# Altium footprint library PogoPinConnPitch2mm3PinSMDHorizontalFemale.PcbLib: 1 footprints
Each footprint in its own frame and in the unit in brackets; x right, y up, seen from the top. Pads: shape width x height; smd on the part's side, far side on the other; paste and mask are expansions set on the pad; w line width, h text height; cw(c..) or ccw(c..) is an arc to the next point about the centre after c.
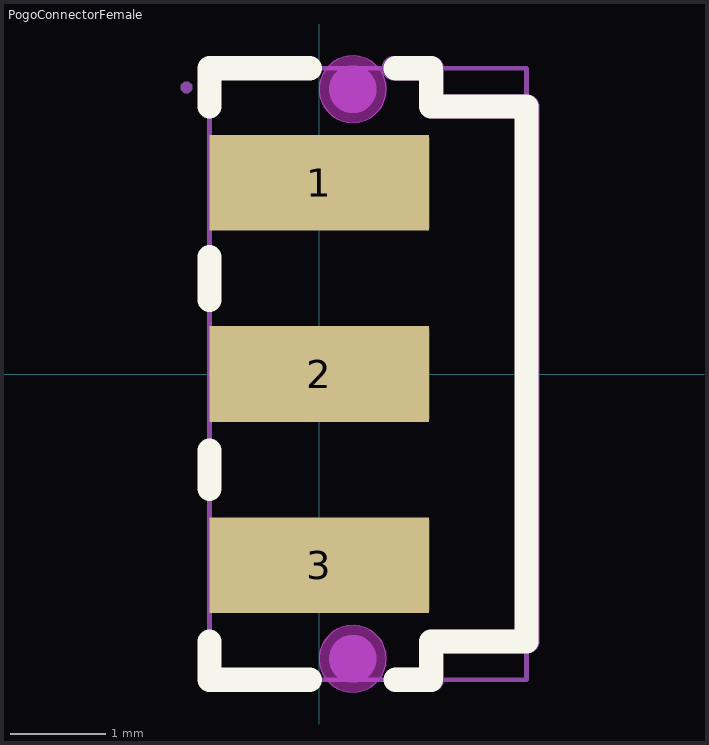
[diagram p0: the footprint, top view; thin cyan lines are the x and y axes]

## PogoConnectorFemale [mm] "Pogo pin connector, Pitch 2mm, SMD, Rectangular Angle, 3 Pins, Female"
pads (3):
  rect 2.3x1 smd: 1(0,2) 2(0,0) 3(0,-2)
Top Overlay:
  lines w0.254: -1.15,-2.8 -1.15,-3.2 -0.1,-3.2 ; -1.15,-1.2 -1.15,-0.8 ; -1.15,0.775 -1.15,1.225 ; -1.15,2.8 -1.15,3.2 -0.1,3.2 ; 0.8,-3.2 1.168,-3.2 ; 0.8,3.2 1.168,3.2 1.168,2.8 2.168,2.8 2.168,-2.8 1.168,-2.8 1.168,-3.2
Keep-Out Layer:
  board cut-out: 0.7,-2.98 0.7,-3.05 0.647,-3.178 0.548,-3.277 0.42,-3.33 0.28,-3.33 0.152,-3.277 0.053,-3.178 0,-3.05 0,-2.98 0,-2.91 0.053,-2.782 0.152,-2.683 0.28,-2.63 0.42,-2.63 0.548,-2.683 0.647,-2.782 0.7,-2.91
  board cut-out: 0.7,2.98 0.7,2.91 0.647,2.782 0.548,2.683 0.42,2.63 0.28,2.63 0.152,2.683 0.053,2.782 0,2.91 0,2.98 0,3.05 0.053,3.178 0.152,3.277 0.28,3.33 0.42,3.33 0.548,3.277 0.647,3.178 0.7,3.05
Keep-Out Layer:
  circle w0.005: c0.35,-2.98 r0.35
  circle w0.005: c0.35,2.98 r0.35
  region: 0.7,-2.98 0.7,-3.05 0.647,-3.178 0.548,-3.277 0.42,-3.33 0.28,-3.33 0.152,-3.277 0.053,-3.178 0,-3.05 0,-2.98 0,-2.91 0.053,-2.782 0.152,-2.683 0.28,-2.63 0.42,-2.63 0.548,-2.683 0.647,-2.782 0.7,-2.91
  region: 0.7,2.98 0.7,2.91 0.647,2.782 0.548,2.683 0.42,2.63 0.28,2.63 0.152,2.683 0.053,2.782 0,2.91 0,2.98 0,3.05 0.053,3.178 0.152,3.277 0.28,3.33 0.42,3.33 0.548,3.277 0.647,3.178 0.7,3.05
Mechanical 1:
  circle w0.005: c0.35,-2.98 r0.35
  circle w0.005: c0.35,2.98 r0.35
Mechanical 6:
  circle w0.25: c0.35,-2.98 r0.125
  circle w0.25: c0.35,2.98 r0.125
  lines w0.254: 0.775,3.2 1.175,3.2 ; 0.8,-3.2 1.175,-3.2 1.175,-2.8 2.175,-2.8 2.175,2.8 1.175,2.8 1.175,3.2 ; 1.175,3.2 1.175,3.2
Mechanical 15:
  region: 1.15,0.475 1.15,-0.475 -1.15,-0.475 -1.15,0.475
  region: -1.33,3 -1.33,2.975 -1.365,2.94 -1.415,2.94 -1.45,2.975 -1.45,3 -1.45,3.025 -1.415,3.06 -1.365,3.06 -1.33,3.025
  region: 1.15,2.475 1.15,1.525 -1.15,1.525 -1.15,2.475
  region: 1.15,-1.525 1.15,-2.475 -1.15,-2.475 -1.15,-1.525
  lines w0.051: -1.15,-3.2 2.168,-3.2 2.168,3.2 -1.15,3.2 -1.15,-3.2